# Altium footprint library 1040310811.PcbLib: 1 footprints
Each footprint in its own frame and in the unit in brackets; x right, y up, seen from the top. Pads: shape width x height; smd on the part's side, far side on the other; paste and mask are expansions set on the pad; w line width, h text height; cw(c..) or ccw(c..) is an arc to the next point about the centre after c.
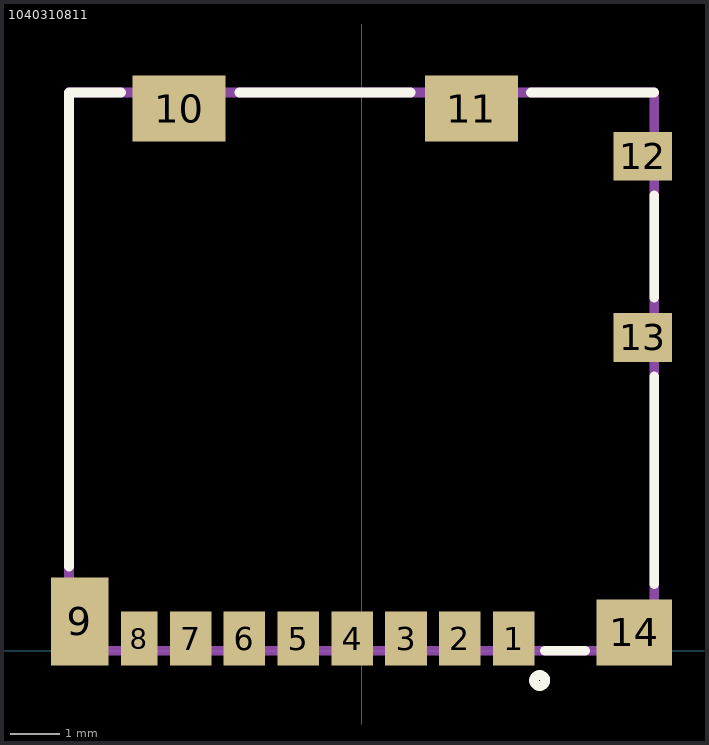
[diagram p0: the footprint, top view; thin cyan lines are the x and y axes]

## 1040310811 [mm]
pads (14):
  rect 0.85x1.1 smd: 1(3.105,0.25) 2(2.005,0.25) 3(0.905,0.25) 4(-0.195,0.25) 5(-1.295,0.25) 6(-2.395,0.25) 7(-3.495,0.25)
  rect 0.75x1.1 smd: 8(-4.545,0.25)
  rect 1.17x1.8 smd: 9(-5.755,0.6)
  rect 1.9x1.35 smd: 10(-3.73,11.075) 11(2.24,11.075)
  rect 1.2x1 smd: 12(5.74,10.1) 13(5.74,6.4)
  rect 1.55x1.35 smd: 14(5.565,0.375)
Top Overlay:
  circle w0.2: c3.634,-0.605 r0.113
  lines w0.2: -5.975,1.721 -5.975,11.4 -4.914,11.4 ; -2.5,11.4 1,11.4 ; 3.455,11.4 5.975,11.4 ; 3.739,0 4.56,0 ; 5.975,1.367 5.975,5.601 ; 5.975,7.216 5.975,9.297
Mechanical 15:
  lines w0.2: -5.975,0 5.975,0 5.975,11.4 -5.975,11.4 -5.975,0
3D body "104031-0811.stp": height 5.8, standoff -4.65, extent -10,-3.376 10,3.376